# Altium schematic symbol library BRD_090_Rev2.0.SchLib: 6 symbols
Pins are listed as number, name and electrical type; pins without a type are passive.

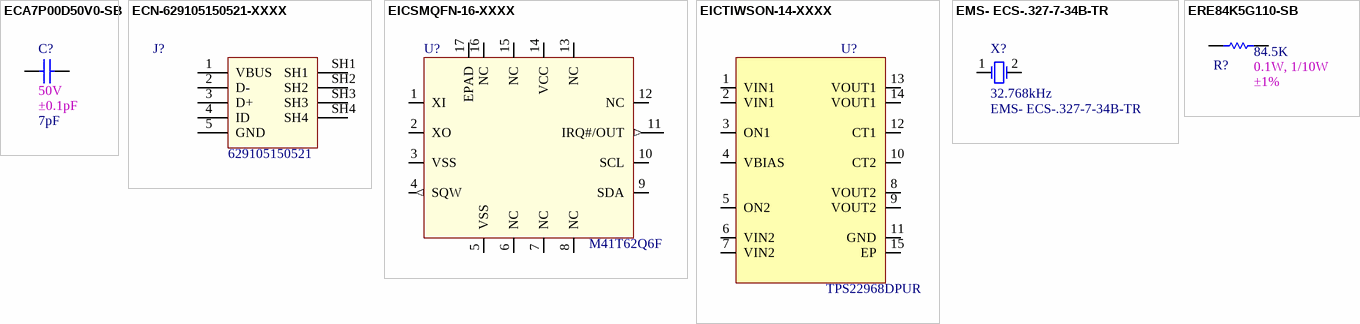
[diagram p0: symbols ECA7P00D50V0-SB to ERE84K5G110-SB]

## ECA7P00D50V0-SB
designator C?, comment value 7pF  1st Auxiliary Field: 50V  2nd Auxiliary Field: ±0.1pF  (hidden comment: CAP CER 7PF 50V C0G/NP0 0402)
Manufacturer: Murata Electronics; Manufacturer Part Number: GJM1555C1H7R0BB01D; Internal Part Number: ECA7P00D50V0-SB; Vendor Part Number: 490-11233-1-ND; Component Height (mm): 0.55mm; 3rd Auxiliary Field: ROHS3 Compliant; Temp Co: C0G, NP0; Vendor Name: Digi-Key; Part Type: CAP CER 7PF 50V C0G/NP0 0402
footprint SMDC0402 (Footprint not found)
pins: 1, 2

## ECN-629105150521-XXXX
designator J?, comment value 629105150521  (hidden comment: CONN USB MICRO B RECPT SMCONN RCPT USB2.0 MICRO B SMD R/AT R/A)
CONN RCPT USB2.0 MICRO B SMD R/A; Manufacturer: Würth Elektronik; Internal Part Number: ECN-629105150521-XXXX; Vendor Part Number: 732-5960-1-ND; Component Height (mm): 2.66mm; 3rd Auxiliary Field: ROHS3 Compliant; Vendor Name: Digi-Key; Temp Co: -40°C ~ 85°C; 1st Auxiliary Field: 1A, 3A; 2nd Auxiliary Field: 5 POS; Manufacturer Part Number: 629105150521; Part Type: CONN RCPT USB2.0 MICRO B SMD R/A; 4th Auxiliary Field: *
footprint WURTH_629105150521
pins: 1 VBUS, 2 D-, 3 D+, 4 ID, 5 GND, SH1, SH2, SH3, SH4

## EICSMQFN-16-XXXX
designator U?, comment value M41T62Q6F  (hidden comment: IC RTC CLK/CALENDAR I2C 16-QFN)
Manufacturer: STMicroelectronics; Internal Part Number: EICSMQFN-16-XXXX; Vendor Part Number: 497-3907-1-ND; Component Height (mm): 1mm; 3rd Auxiliary Field: ROHS3 Compliant; 1st Auxiliary Field: 1.3V ~ 4.4V; 2nd Auxiliary Field: HH:MM:SS:hh (24 hr); Vendor Name: Digi-Key; Temp Co: -40°C ~ 85°C; Manufacturer Part Number: M41T62Q6F; Part Type: IC RTC CLK/CALENDAR I2C 16-QFN; 4th Auxiliary Field: *
footprint VQFN50P300X300X100_HS-17N (QFN, 16-Leads, Body 3.00x3.00mm, Pitch 0.50mm, Thermal Pad 1.68x1.68mm, IPC Medium Density)
pins: 1 XI, 2 XO, 3 VSS (power), 4 SQW (out), 5 VSS (power), 6 NC, 7 NC, 8 NC, 9 SDA, 10 SCL, 11 IRQ#/OUT (out), 12 NC, 13 NC, 14 VCC (power), 15 NC, 16 NC, 17 EPAD

## EICTIWSON-14-XXXX
designator U?, comment value TPS22968DPUR  (hidden comment: IC PWR SWITCH N-CHAN 1:1 14WSON)
Manufacturer: Texas Instruments; Internal Part Number: EICTIWSON-14-XXXX; Vendor Part number: 296-40720-1-ND; 1st Auxiliary Field: 0.8V ~ 5.5V; 2nd Auxiliary Field: 4A; 3rd Auxiliary Field: 27mOhm; Component Height (mm): 0.85mm; Temp Co: -40°C ~ 85°C (TA); Vendor Name: Digi-Key; 4th Auxiliary Field: *; Manufacturer Part Number: TPS22968DPUR; Part Type: IC PWR SWITCH N-CHAN 1:1 14WSON
footprint SON40P200X80_HS-15N (SON, 14-Leads, Body 3.00x2.00mm, Pitch 0.40mm, Thermal Pad 2.50x0.69mm, IPC Medium Density)
pins: 1 VIN1, 2 VIN1, 3 ON1, 4 VBIAS, 5 ON2, 6 VIN2, 7 VIN2, 8 VOUT2, 9 VOUT2, 10 CT2, 11 GND (power), 12 CT1, 13 VOUT1, 14 VOUT1, 15 EP

## EMS- ECS-.327-7-34B-TR
designator X?, comment value EMS- ECS-.327-7-34B-TR  1st Auxiliary Field: 32.768kHz  (hidden comment: CRYSTAL 32.7680KHZ 7PF SMD)
Manufacturer: ECS Inc.; Vendor Part Number: XC1656CT-ND; Manufacturer Part Number: ECS-.327-7-34B-TR; 2nd Auxiliary Field: ±20ppm; 3rd Auxiliary Field: ROHS3 Compliant; Component Height (mm): 0.9mm; Temp Co: -40°C ~ 85°C; Vendor Name: Digi-Key; 4th Auxiliary Field: *; Internal Part Number: EMS- ECS-.327-7-34B-TR; Part Type: CRYSTAL 32.7680KHZ 7PF SMD
footprint XTAL_ECS-.327-7-34B-TR
pins: 1, 2 (power)

## ERE84K5G110-SB
designator R?, comment value 84.5K  1st Auxiliary Field: 0.1W, 1/10W  2nd Auxiliary Field: ±1%  (hidden comment: RES SMD 84.5K OHM 1% 1/10W 0402)
Manufacturer Part Number: ERJ-2RKF8452X; Manufacturer: Panasonic Electronic Components; Internal Part Number: ERE84K5G110-SB; Vendor Part Number: P84.5KLCT-ND; Component Height (mm): 0.40mm; 3rd Auxiliary Field: ROHS3 Compliant; Vendor Name: Digi-Key; Temp Co: ±100ppm/°C; Part Type: RES SMD 84.5K OHM 1% 1/10W 0402; 4th Auxiliary Field: *
footprint SMDR0402
footprint SMDR0402
pins: 1, 2